# Altium schematic symbol library TLP293-4(V4-GB,E.Schlib: 1 symbol
Pins are listed as number, name and electrical type; pins without a type are passive.

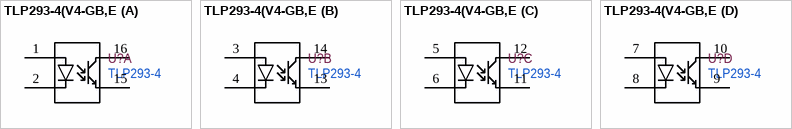
[diagram p0: symbol TLP293-4(V4-GB,E]

## TLP293-4(V4-GB,E
designator U?, comment TLP293-4
OPTOISOLATOR 3.75KV TRANS SO16; Manufacturer 1: Toshiba; Manufacturer Part Number 1: TLP293-4(V4-GB,E; Forward Voltage: 1.25V; Number of Channels: 4; Max Output Voltage: 80V; Output Current per Channel: 50mA; Collector Emitter Voltage (VCEO): 300mV; Supplier 1: Digi-Key; RoHS: Yes; Category: Optocouplers; Stock 1: 803; Pricing 1: 1=1.25000, 10=1.01400, 100=0.62400, 500=0.53040, 1000=0.43680, 2500=0.41496, 5000=0.40560, 10000=0.39624, 25000=0.39000 (USD); Mount: Surface Mount; Case/Package: SOIC; Min Operating Temperature: -55°C; Max Operating Temperature: 125°C; Packaging: Rail/Tube; Supplier Part Number 1: TLP293-4(V4-GBE-ND; LCSC Part #: C60900; ComponentLink1Description: LCSC - TOSHIBA TLP291-4(GB-TP,E(T; ComponentLink1URL: https://lcsc.com/product-detail/SMD-Optocouplers_TOSHIBA_TLP291-4-GB-TP-E-T_TLP291-4-GB-TP-E-T_C60900.html/?href=jlc-SMT; JLCPCB Part Type: Extended
footprint SOP128P700X220-16N
part A pins: 1, 2, 15 (oe), 16 (oc)
part B pins: 3 A, 4 K, 13 E (oe), 14 K (oc)
part C pins: 5 A, 6 K, 11 E (oe), 12 K (oc)
part D pins: 7 A, 8 K, 9 E (oe), 10 K (oc)